# EAGLE library part VNH5050A (library JH)
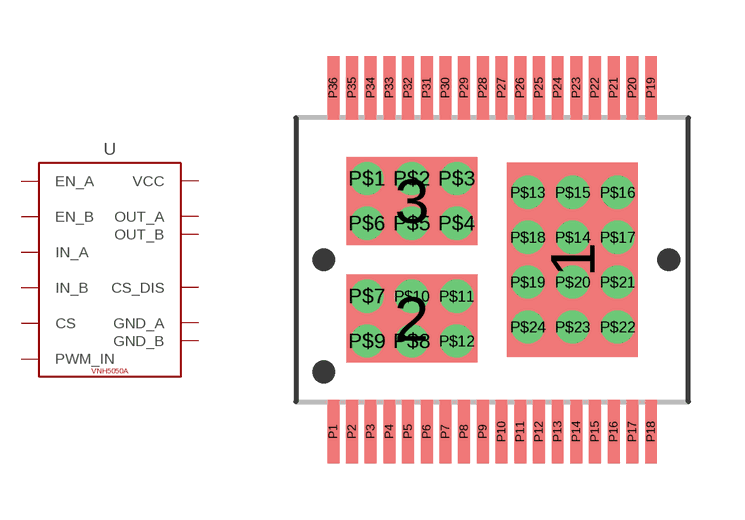
[diagram p1: symbol with the pads of POWERSSO-36; footprint POWERSSO-36]

Designator prefix -

## VNH5050A  [POWERSSO-36]
1  VCC  pwr
2  OUT_A  out
3  OUT_B  out
P1  GND_A  out
P2  OUT_A  out
P3  GND_A  out
P4  GND_A  out
P5  GND_A  out
P6  GND_A  out
P7  GND_A  out
P8  OUT_A  out
P9  OUT_A  out
P10  OUT_A  out
P11  OUT_A  out
P12  OUT_A  out
P13  VCC  pwr
P14  OUT_A  out
P15  IN_A  in
P16  EN_A
P17  PWM_IN  in
P18  NC  nc
P19  CS  out
P20  CS_DIS
P21  EN_B
P22  IN_B  in
P23  OUT_B  out
P24  VCC  pwr
P25  OUT_B  out
P26  OUT_B  out
P27  OUT_B  out
P28  OUT_B  out
P29  OUT_B  out
P30  GND_B  out
P31  GND_B  out
P32  GND_B  out
P33  GND_B  out
P34  GND_B  out
P35  OUT_B  out
P36  GND_B  out
P$1  OUT_B  out
P$2  OUT_B  out
P$3  OUT_B  out
P$4  OUT_B  out
P$5  OUT_B  out
P$6  OUT_B  out
P$7  OUT_A  out
P$8  OUT_A  out
P$9  OUT_A  out
P$10  OUT_A  out
P$11  OUT_A  out
P$12  OUT_A  out
P$13  VCC  pwr
P$14  VCC  pwr
P$15  VCC  pwr
P$16  VCC  pwr
P$17  VCC  pwr
P$18  VCC  pwr
P$19  VCC  pwr
P$20  VCC  pwr
P$21  VCC  pwr
P$22  VCC  pwr
P$23  VCC  pwr
P$24  VCC  pwr

## Footprint POWERSSO-36 (pad centres in mm)
smd 3.5 x 5.2: 1 2.15,0
smd 3.5 x 2.35: 2 -2.15,-1.575; 3 -2.15,1.575
smd 0.32 x 1.7: P1 -4.25,-4.6; P2 -3.75,-4.6; P3 -3.25,-4.6; P4 -2.75,-4.6; P5 -2.25,-4.6; P6 -1.75,-4.6; P7 -1.25,-4.6; P8 -0.75,-4.6; P9 -0.25,-4.6; P10 0.25,-4.6; P11 0.75,-4.6; P12 1.25,-4.6; P13 1.75,-4.6; P14 2.25,-4.6; P15 2.75,-4.6; P16 3.25,-4.6; P17 3.75,-4.6; P18 4.25,-4.6; P19 4.25,4.6; P20 3.75,4.6; P21 3.25,4.6; P22 2.75,4.6; P23 2.25,4.6; P24 1.75,4.6; P25 1.25,4.6; P26 0.75,4.6; P27 0.25,4.6; P28 -0.25,4.6; P29 -0.75,4.6; P30 -1.25,4.6; P31 -1.75,4.6; P32 -2.25,4.6; P33 -2.75,4.6; P34 -3.25,4.6; P35 -3.75,4.6; P36 -4.25,4.6
drill 0.381: P$1 -3.35,2.175; P$2 -2.15,2.175; P$3 -0.95,2.175; P$4 -0.95,0.975; P$5 -2.15,0.975; P$6 -3.35,0.975; P$7 -3.35,-0.975; P$8 -2.15,-2.175; P$9 -3.35,-2.175; P$10 -2.15,-0.975; P$11 -0.95,-0.975; P$12 -0.95,-2.175; P$13 0.952,1.802; P$14 2.152,0.602; P$15 2.152,1.802; P$16 3.352,1.802; P$17 3.352,0.602; P$18 0.952,0.602; P$19 0.952,-0.598; P$20 2.152,-0.598; P$21 3.352,-0.598; P$22 3.352,-1.798; P$23 2.152,-1.798; P$24 0.952,-1.798